# Altium schematic symbol library SCH - DIODES - RGB.SCHLIB: 1 symbol
Pins are listed as number, name and electrical type; pins without a type are passive.

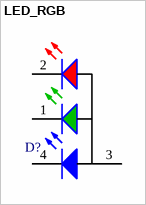
[diagram p0: symbol LED_RGB]

## LED_RGB
designator D?
RGB LED
pins: 1 K, 2 K, 3 A, 4 K_B